# Altium schematic symbol library MCP3464RT-E_NC.SchLib: 1 symbol
Pins are listed as number, name and electrical type; pins without a type are passive.

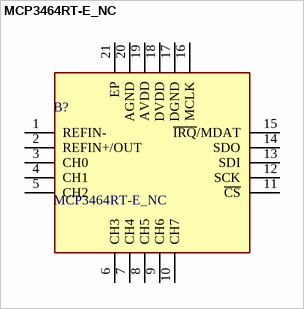
[diagram p0: symbol MCP3464RT-E_NC]

## MCP3464RT-E_NC
designator B?
Analog to Digital Converters - ADC 16-bit delta-sigma ADC w/Vref, Quad channel, 3V; Manufacturer_Name: Microchip; Manufacturer_Part_Number: MCP3464RT-E/NC; Geometry.Height: 0.6mm; Mouser Part Number: 579-MCP3464RT-E/NC; Mouser Price/Stock: https://www.mouser.co.uk/ProductDetail/Microchip-Technology/MCP3464RT-E-NC?qs=W%2FMpXkg%252BdQ5Ehc3kIRQ52g%3D%3D; Datasheet Link: https://componentsearchengine.com/Datasheets/2/MCP3464RT-E_NC.pdf
footprint QFN40P300X300X60-21N-D
pins: 1 REFIN-, 2 REFIN+/OUT, 3 CH0, 4 CH1, 5 CH2, 6 CH3, 7 CH4, 8 CH5, 9 CH6, 10 CH7, 11 ~{CS}, 12 SCK, 13 SDI, 14 SDO, 15 ~{IRQ}/MDAT, 16 MCLK, 17 DGND, 18 DVDD, 19 AVDD, 20 AGND, 21 EP